# Altium footprint library chip_2725.PcbLib: 1 footprints
Each footprint in its own frame and in the unit in brackets; x right, y up, seen from the top. Pads: shape width x height; smd on the part's side, far side on the other; paste and mask are expansions set on the pad; w line width, h text height; cw(c..) or ccw(c..) is an arc to the next point about the centre after c.
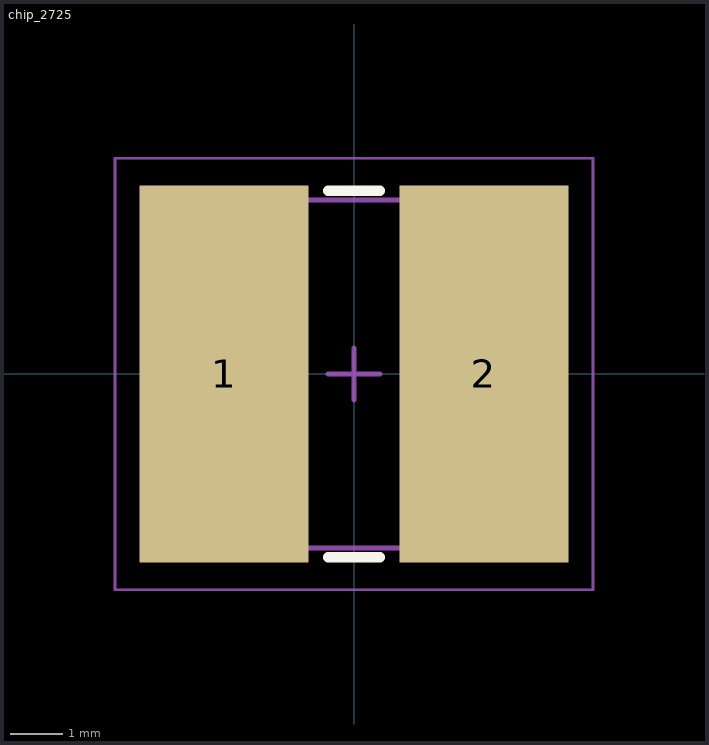
[diagram p0: the footprint, top view; thin cyan lines are the x and y axes]

## chip_2725 [mm]
height 1.09
pads (2):
  rect 3.25x7.25 smd: 1(-2.5,0) 2(2.5,0)
Top Overlay:
  lines w0.2: -0.5,-3.525 0.5,-3.525 ; -0.5,3.525 0.5,3.525
Mechanical 13:
  lines w0.1: -3.53,-3.35 -3.53,3.35 3.53,3.35 3.53,-3.35 -3.53,-3.35
Mechanical 15:
  lines w0.05: -4.6,-4.15 -4.6,4.15 4.6,4.15 4.6,-4.15 -4.6,-4.15
  lines w0.1: -0.5,0 0.5,0 ; 0,-0.5 0,0.5
3D body: height 1.09, standoff 0, extent -1.37,-3.35 1.37,3.35
3D body: height 1.09, standoff 0, extent -3.53,-3.35 -1.37,3.35
3D body: height 1.09, standoff 0, extent 1.37,-3.35 3.53,3.35